# Altium footprint library Connector_FFC-FPC.PcbLib: 372 footprints (part 8 of 24)
Each footprint in its own frame and in the unit in brackets; x right, y up, seen from the top. Pads: shape width x height; smd on the part's side, far side on the other; paste and mask are expansions set on the pad; w line width, h text height; cw(c..) or ccw(c..) is an arc to the next point about the centre after c.
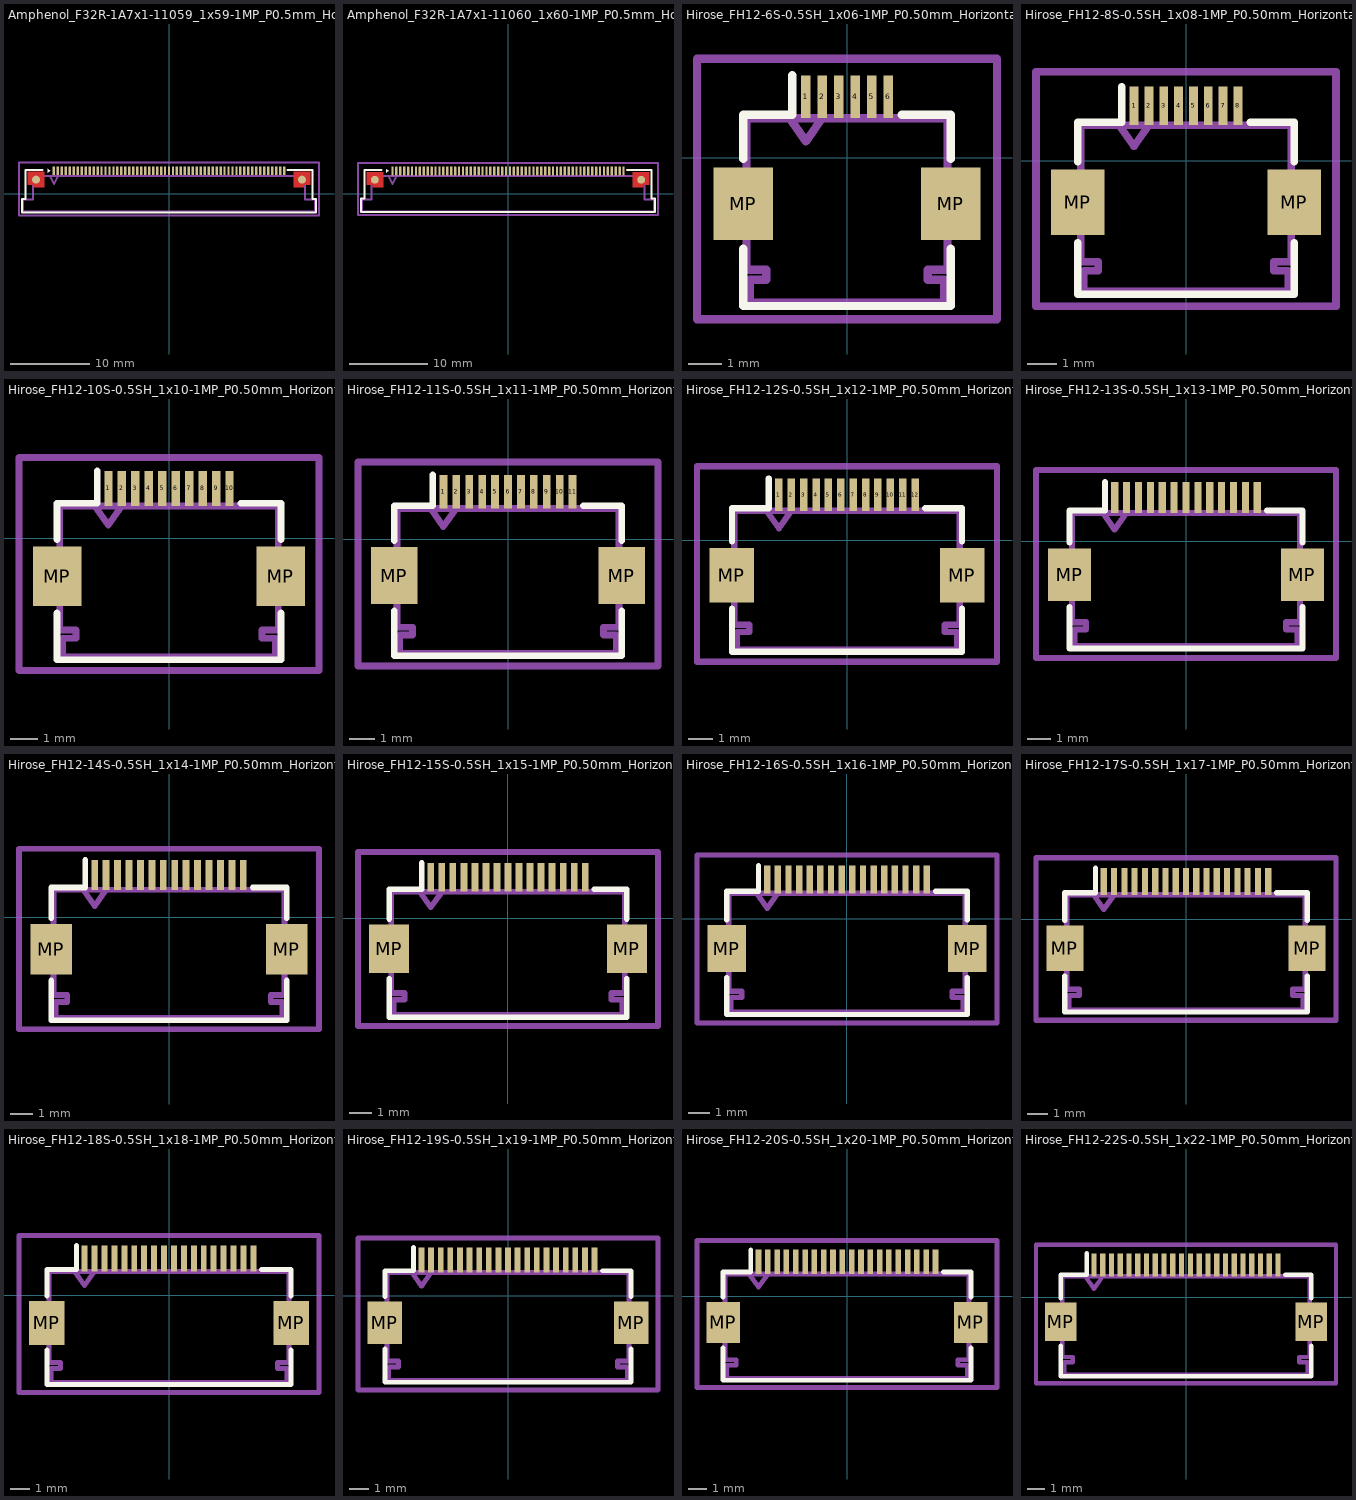
[diagram p7: the footprints below, top view; thin cyan lines are the x and y axes]

## Amphenol_F32R-1A7x1-11059_1x59-1MP_P0.5mm_Horizontal [mm]
pads (61):
  rrect25% 0.3x1.1 smd: 1(-14.5,2.9) 2(-14,2.9) 3(-13.5,2.9) 4(-13,2.9) 5(-12.5,2.9) 6(-12,2.9) 7(-11.5,2.9) 8(-11,2.9) 9(-10.5,2.9) 10(-10,2.9) 11(-9.5,2.9) 12(-9,2.9) 13(-8.5,2.9) 14(-8,2.9) 15(-7.5,2.9) 16(-7,2.9) 17(-6.5,2.9) 18(-6,2.9) 19(-5.5,2.9) 20(-5,2.9) 21(-4.5,2.9) 22(-4,2.9) 23(-3.5,2.9) 24(-3,2.9) 25(-2.5,2.9) 26(-2,2.9) 27(-1.5,2.9) 28(-1,2.9) 29(-0.5,2.9) 30(0,2.9) 31(0.5,2.9) 32(1,2.9) 33(1.5,2.9) 34(2,2.9) 35(2.5,2.9) 36(3,2.9) 37(3.5,2.9) 38(4,2.9) 39(4.5,2.9) 40(5,2.9) 41(5.5,2.9) 42(6,2.9) 43(6.5,2.9) 44(7,2.9) 45(7.5,2.9) 46(8,2.9) 47(8.5,2.9) 48(9,2.9) 49(9.5,2.9) 50(10,2.9) 51(10.5,2.9) 52(11,2.9) 53(11.5,2.9) 54(12,2.9) 55(12.5,2.9) 56(13,2.9) 57(13.5,2.9) 58(14,2.9) 59(14.5,2.9)
  round 1 smd: MP(-16.75,1.775) MP(16.75,1.775)
F.Cu:
  region: 17.8,1.15 17,1.15 17,0.8 15.7,0.8 15.7,2.75 17.8,2.75
  region: -15.7,0.8 -17,0.8 -17,1.15 -17.8,1.15 -17.8,2.75 -15.7,2.75
F.SilkS:
  region: -14.97,2.9 -15.3,2.66 -15.3,3.14
  lines w0.254: -15.91,3.01 -18.06,3.01 -18.06,-0.64 -18.51,-0.64 -18.51,-2.36 18.51,-2.36 18.51,-0.64 18.06,-0.64 18.06,3.01 14.91,3.01
F.Paste:
  region: 17.8,1.15 17,1.15 17,0.8 15.7,0.8 15.7,2.75 17.8,2.75
  region: -15.7,0.8 -17,0.8 -17,1.15 -17.8,1.15 -17.8,2.75 -15.7,2.75
F.Mask:
  region: 17.8,1.15 17,1.15 17,0.8 15.7,0.8 15.7,2.75 17.8,2.75
  region: -15.7,0.8 -17,0.8 -17,1.15 -17.8,1.15 -17.8,2.75 -15.7,2.75
Top Assembly:
  lines w0.254: -15,2.25 -14.5,1.25 -14,2.25 ; -18.4,-2.25 18.4,-2.25 18.4,-0.75 17.15,-0.75 17.15,2.25 -17.15,2.25 -17.15,-0.75 -18.4,-0.75 -18.4,-2.25
  text "'.Designator'" at -4.047,-0.84 h1
Top Courtyard:
  lines w0.254: -18.9,-2.75 18.9,-2.75 18.9,3.95 -18.9,3.95 -18.9,-2.75
Top Designator:
  text ".Designator" at -7.618,0.092 h1.52

## Amphenol_F32R-1A7x1-11060_1x60-1MP_P0.5mm_Horizontal [mm]
pads (62):
  rrect25% 0.3x1.1 smd: 1(-14.75,2.9) 2(-14.25,2.9) 3(-13.75,2.9) 4(-13.25,2.9) 5(-12.75,2.9) 6(-12.25,2.9) 7(-11.75,2.9) 8(-11.25,2.9) 9(-10.75,2.9) 10(-10.25,2.9) 11(-9.75,2.9) 12(-9.25,2.9) 13(-8.75,2.9) 14(-8.25,2.9) 15(-7.75,2.9) 16(-7.25,2.9) 17(-6.75,2.9) 18(-6.25,2.9) 19(-5.75,2.9) 20(-5.25,2.9) 21(-4.75,2.9) 22(-4.25,2.9) 23(-3.75,2.9) 24(-3.25,2.9) 25(-2.75,2.9) 26(-2.25,2.9) 27(-1.75,2.9) 28(-1.25,2.9) 29(-0.75,2.9) 30(-0.25,2.9) 31(0.25,2.9) 32(0.75,2.9) 33(1.25,2.9) 34(1.75,2.9) 35(2.25,2.9) 36(2.75,2.9) 37(3.25,2.9) 38(3.75,2.9) 39(4.25,2.9) 40(4.75,2.9) 41(5.25,2.9) 42(5.75,2.9) 43(6.25,2.9) 44(6.75,2.9) 45(7.25,2.9) 46(7.75,2.9) 47(8.25,2.9) 48(8.75,2.9) 49(9.25,2.9) 50(9.75,2.9) 51(10.25,2.9) 52(10.75,2.9) 53(11.25,2.9) 54(11.75,2.9) 55(12.25,2.9) 56(12.75,2.9) 57(13.25,2.9) 58(13.75,2.9) 59(14.25,2.9) 60(14.75,2.9)
  round 1 smd: MP(-17,1.775) MP(17,1.775)
F.Cu:
  region: 18.05,1.15 17.25,1.15 17.25,0.8 15.95,0.8 15.95,2.75 18.05,2.75
  region: -15.95,0.8 -17.25,0.8 -17.25,1.15 -18.05,1.15 -18.05,2.75 -15.95,2.75
F.SilkS:
  region: -15.22,2.9 -15.55,2.66 -15.55,3.14
  lines w0.254: -16.16,3.01 -18.31,3.01 -18.31,-0.64 -18.76,-0.64 -18.76,-2.36 18.76,-2.36 18.76,-0.64 18.31,-0.64 18.31,3.01 15.16,3.01
F.Paste:
  region: 18.05,1.15 17.25,1.15 17.25,0.8 15.95,0.8 15.95,2.75 18.05,2.75
  region: -15.95,0.8 -17.25,0.8 -17.25,1.15 -18.05,1.15 -18.05,2.75 -15.95,2.75
F.Mask:
  region: 18.05,1.15 17.25,1.15 17.25,0.8 15.95,0.8 15.95,2.75 18.05,2.75
  region: -15.95,0.8 -17.25,0.8 -17.25,1.15 -18.05,1.15 -18.05,2.75 -15.95,2.75
Top Assembly:
  lines w0.254: -15.25,2.25 -14.75,1.25 -14.25,2.25 ; -18.65,-2.25 18.65,-2.25 18.65,-0.75 17.4,-0.75 17.4,2.25 -17.4,2.25 -17.4,-0.75 -18.65,-0.75 -18.65,-2.25
  text "'.Designator'" at -4.047,-0.84 h1
Top Courtyard:
  lines w0.254: -19.15,-2.75 19.15,-2.75 19.15,3.95 -19.15,3.95 -19.15,-2.75
Top Designator:
  text ".Designator" at -7.618,0.092 h1.52

## Hirose_FH12-6S-0.5SH_1x06-1MP_P0.50mm_Horizontal [mm]
pads (8):
  rect 0.3x1.3 smd: 1(-1.25,1.85) 2(-0.75,1.85) 3(-0.25,1.85) 4(0.25,1.85) 5(0.75,1.85) 6(1.25,1.85)
  rect 1.8x2.2 smd: MP(-3.15,-1.4) MP(3.15,-1.4)
F.SilkS:
  lines w0.254: -3.15,-2.76 -3.15,-4.5 3.15,-4.5 3.15,-2.76 ; -3.15,-0.04 -3.15,1.3 -1.66,1.3 -1.66,2.5 ; 1.66,1.3 3.15,1.3 3.15,-0.04
Top Assembly:
  lines w0.254: -1.75,1.2 -1.25,0.493 -0.75,1.2 ; -3.05,-3.4 -2.45,-3.4 -2.45,-3.7 -2.95,-3.7 -2.95,-4.4 0,-4.4 2.95,-4.4 2.95,-3.7 2.45,-3.7 2.45,-3.4 3.05,-3.4 3.05,1.2 0,1.2 -3.05,1.2 -3.05,-3.4
  text "'.Designator'" at -4.047,-4.54 h1
Top Courtyard:
  lines w0.254: -4.55,-4.9 4.55,-4.9 4.55,3 -4.55,3 -4.55,-4.9
Top Designator:
  text ".Designator" at -7.618,-1.458 h1.52

## Hirose_FH12-8S-0.5SH_1x08-1MP_P0.50mm_Horizontal [mm]
pads (10):
  rect 0.3x1.3 smd: 1(-1.75,1.85) 2(-1.25,1.85) 3(-0.75,1.85) 4(-0.25,1.85) 5(0.25,1.85) 6(0.75,1.85) 7(1.25,1.85) 8(1.75,1.85)
  rect 1.8x2.2 smd: MP(-3.65,-1.4) MP(3.65,-1.4)
F.SilkS:
  lines w0.254: -3.65,-2.76 -3.65,-4.5 3.65,-4.5 3.65,-2.76 ; -3.65,-0.04 -3.65,1.3 -2.16,1.3 -2.16,2.5 ; 2.16,1.3 3.65,1.3 3.65,-0.04
Top Assembly:
  lines w0.254: -2.25,1.2 -1.75,0.493 -1.25,1.2 ; -3.55,-3.4 -2.95,-3.4 -2.95,-3.7 -3.45,-3.7 -3.45,-4.4 0,-4.4 3.45,-4.4 3.45,-3.7 2.95,-3.7 2.95,-3.4 3.55,-3.4 3.55,1.2 0,1.2 -3.55,1.2 -3.55,-3.4
  text "'.Designator'" at -4.047,-4.54 h1
Top Courtyard:
  lines w0.254: -5.05,-4.9 5.05,-4.9 5.05,3 -5.05,3 -5.05,-4.9
Top Designator:
  text ".Designator" at -7.618,-1.458 h1.52

## Hirose_FH12-10S-0.5SH_1x10-1MP_P0.50mm_Horizontal [mm]
pads (12):
  rect 0.3x1.3 smd: 1(-2.25,1.85) 2(-1.75,1.85) 3(-1.25,1.85) 4(-0.75,1.85) 5(-0.25,1.85) 6(0.25,1.85) 7(0.75,1.85) 8(1.25,1.85) 9(1.75,1.85) 10(2.25,1.85)
  rect 1.8x2.2 smd: MP(-4.15,-1.4) MP(4.15,-1.4)
F.SilkS:
  lines w0.254: -4.15,-2.76 -4.15,-4.5 4.15,-4.5 4.15,-2.76 ; -4.15,-0.04 -4.15,1.3 -2.66,1.3 -2.66,2.5 ; 2.66,1.3 4.15,1.3 4.15,-0.04
Top Assembly:
  lines w0.254: -2.75,1.2 -2.25,0.493 -1.75,1.2 ; -4.05,-3.4 -3.45,-3.4 -3.45,-3.7 -3.95,-3.7 -3.95,-4.4 0,-4.4 3.95,-4.4 3.95,-3.7 3.45,-3.7 3.45,-3.4 4.05,-3.4 4.05,1.2 0,1.2 -4.05,1.2 -4.05,-3.4
  text "'.Designator'" at -4.047,-4.54 h1
Top Courtyard:
  lines w0.254: -5.56,-4.9 5.56,-4.9 5.56,3 -5.56,3 -5.56,-4.9
Top Designator:
  text ".Designator" at -7.618,-1.458 h1.52

## Hirose_FH12-11S-0.5SH_1x11-1MP_P0.50mm_Horizontal [mm]
pads (13):
  rect 0.3x1.3 smd: 1(-2.5,1.85) 2(-2,1.85) 3(-1.5,1.85) 4(-1,1.85) 5(-0.5,1.85) 6(0,1.85) 7(0.5,1.85) 8(1,1.85) 9(1.5,1.85) 10(2,1.85) 11(2.5,1.85)
  rect 1.8x2.2 smd: MP(-4.4,-1.4) MP(4.4,-1.4)
F.SilkS:
  lines w0.254: -4.4,-2.76 -4.4,-4.5 4.4,-4.5 4.4,-2.76 ; -4.4,-0.04 -4.4,1.3 -2.91,1.3 -2.91,2.5 ; 2.91,1.3 4.4,1.3 4.4,-0.04
Top Assembly:
  lines w0.254: -3,1.2 -2.5,0.493 -2,1.2 ; -4.3,-3.4 -3.7,-3.4 -3.7,-3.7 -4.2,-3.7 -4.2,-4.4 0,-4.4 4.2,-4.4 4.2,-3.7 3.7,-3.7 3.7,-3.4 4.3,-3.4 4.3,1.2 0,1.2 -4.3,1.2 -4.3,-3.4
  text "'.Designator'" at -4.047,-4.54 h1
Top Courtyard:
  lines w0.254: -5.81,-4.9 5.81,-4.9 5.81,3 -5.81,3 -5.81,-4.9
Top Designator:
  text ".Designator" at -7.618,-1.458 h1.52

## Hirose_FH12-12S-0.5SH_1x12-1MP_P0.50mm_Horizontal [mm]
pads (14):
  rect 0.3x1.3 smd: 1(-2.75,1.85) 2(-2.25,1.85) 3(-1.75,1.85) 4(-1.25,1.85) 5(-0.75,1.85) 6(-0.25,1.85) 7(0.25,1.85) 8(0.75,1.85) 9(1.25,1.85) 10(1.75,1.85) 11(2.25,1.85) 12(2.75,1.85)
  rect 1.8x2.2 smd: MP(-4.65,-1.4) MP(4.65,-1.4)
F.SilkS:
  lines w0.254: -4.65,-2.76 -4.65,-4.5 4.65,-4.5 4.65,-2.76 ; -4.65,-0.04 -4.65,1.3 -3.16,1.3 -3.16,2.5 ; 3.16,1.3 4.65,1.3 4.65,-0.04
Top Assembly:
  lines w0.254: -3.25,1.2 -2.75,0.493 -2.25,1.2 ; -4.55,-3.4 -3.95,-3.4 -3.95,-3.7 -4.45,-3.7 -4.45,-4.4 0,-4.4 4.45,-4.4 4.45,-3.7 3.95,-3.7 3.95,-3.4 4.55,-3.4 4.55,1.2 0,1.2 -4.55,1.2 -4.55,-3.4
  text "'.Designator'" at -4.047,-4.54 h1
Top Courtyard:
  lines w0.254: -6.06,-4.9 6.06,-4.9 6.06,3 -6.06,3 -6.06,-4.9
Top Designator:
  text ".Designator" at -7.618,-1.458 h1.52

## Hirose_FH12-13S-0.5SH_1x13-1MP_P0.50mm_Horizontal [mm]
pads (15):
  rect 0.3x1.3 smd: 1(-3,1.85) 2(-2.5,1.85) 3(-2,1.85) 4(-1.5,1.85) 5(-1,1.85) 6(-0.5,1.85) 7(0,1.85) 8(0.5,1.85) 9(1,1.85) 10(1.5,1.85) 11(2,1.85) 12(2.5,1.85) 13(3,1.85)
  rect 1.8x2.2 smd: MP(-4.9,-1.4) MP(4.9,-1.4)
F.SilkS:
  lines w0.254: -4.9,-2.76 -4.9,-4.5 4.9,-4.5 4.9,-2.76 ; -4.9,-0.04 -4.9,1.3 -3.41,1.3 -3.41,2.5 ; 3.41,1.3 4.9,1.3 4.9,-0.04
Top Assembly:
  lines w0.254: -3.5,1.2 -3,0.493 -2.5,1.2 ; -4.8,-3.4 -4.2,-3.4 -4.2,-3.7 -4.7,-3.7 -4.7,-4.4 0,-4.4 4.7,-4.4 4.7,-3.7 4.2,-3.7 4.2,-3.4 4.8,-3.4 4.8,1.2 0,1.2 -4.8,1.2 -4.8,-3.4
  text "'.Designator'" at -4.047,-4.54 h1
Top Courtyard:
  lines w0.254: -6.31,-4.9 6.31,-4.9 6.31,3 -6.31,3 -6.31,-4.9
Top Designator:
  text ".Designator" at -7.618,-1.458 h1.52

## Hirose_FH12-14S-0.5SH_1x14-1MP_P0.50mm_Horizontal [mm]
pads (16):
  rect 0.3x1.3 smd: 1(-3.25,1.85) 2(-2.75,1.85) 3(-2.25,1.85) 4(-1.75,1.85) 5(-1.25,1.85) 6(-0.75,1.85) 7(-0.25,1.85) 8(0.25,1.85) 9(0.75,1.85) 10(1.25,1.85) 11(1.75,1.85) 12(2.25,1.85) 13(2.75,1.85) 14(3.25,1.85)
  rect 1.8x2.2 smd: MP(-5.15,-1.4) MP(5.15,-1.4)
F.SilkS:
  lines w0.254: -5.15,-2.76 -5.15,-4.5 5.15,-4.5 5.15,-2.76 ; -5.15,-0.04 -5.15,1.3 -3.66,1.3 -3.66,2.5 ; 3.66,1.3 5.15,1.3 5.15,-0.04
Top Assembly:
  lines w0.254: -3.75,1.2 -3.25,0.493 -2.75,1.2 ; -5.05,-3.4 -4.45,-3.4 -4.45,-3.7 -4.95,-3.7 -4.95,-4.4 0,-4.4 4.95,-4.4 4.95,-3.7 4.45,-3.7 4.45,-3.4 5.05,-3.4 5.05,1.2 0,1.2 -5.05,1.2 -5.05,-3.4
  text "'.Designator'" at -4.047,-4.54 h1
Top Courtyard:
  lines w0.254: -6.56,-4.9 6.56,-4.9 6.56,3 -6.56,3 -6.56,-4.9
Top Designator:
  text ".Designator" at -7.618,-1.458 h1.52

## Hirose_FH12-15S-0.5SH_1x15-1MP_P0.50mm_Horizontal [mm]
pads (17):
  rect 0.3x1.3 smd: 1(-3.5,1.85) 2(-3,1.85) 3(-2.5,1.85) 4(-2,1.85) 5(-1.5,1.85) 6(-1,1.85) 7(-0.5,1.85) 8(0,1.85) 9(0.5,1.85) 10(1,1.85) 11(1.5,1.85) 12(2,1.85) 13(2.5,1.85) 14(3,1.85) 15(3.5,1.85)
  rect 1.8x2.2 smd: MP(-5.4,-1.4) MP(5.4,-1.4)
F.SilkS:
  lines w0.254: -5.4,-2.76 -5.4,-4.5 5.4,-4.5 5.4,-2.76 ; -5.4,-0.04 -5.4,1.3 -3.91,1.3 -3.91,2.5 ; 3.91,1.3 5.4,1.3 5.4,-0.04
Top Assembly:
  lines w0.254: -4,1.2 -3.5,0.493 -3,1.2 ; -5.3,-3.4 -4.7,-3.4 -4.7,-3.7 -5.2,-3.7 -5.2,-4.4 0,-4.4 5.2,-4.4 5.2,-3.7 4.7,-3.7 4.7,-3.4 5.3,-3.4 5.3,1.2 0,1.2 -5.3,1.2 -5.3,-3.4
  text "'.Designator'" at -4.047,-4.54 h1
Top Courtyard:
  lines w0.254: -6.81,-4.9 6.81,-4.9 6.81,3 -6.81,3 -6.81,-4.9
Top Designator:
  text ".Designator" at -7.618,-1.458 h1.52

## Hirose_FH12-16S-0.5SH_1x16-1MP_P0.50mm_Horizontal [mm]
pads (18):
  rect 0.3x1.3 smd: 1(-3.75,1.85) 2(-3.25,1.85) 3(-2.75,1.85) 4(-2.25,1.85) 5(-1.75,1.85) 6(-1.25,1.85) 7(-0.75,1.85) 8(-0.25,1.85) 9(0.25,1.85) 10(0.75,1.85) 11(1.25,1.85) 12(1.75,1.85) 13(2.25,1.85) 14(2.75,1.85) 15(3.25,1.85) 16(3.75,1.85)
  rect 1.8x2.2 smd: MP(-5.65,-1.4) MP(5.65,-1.4)
F.SilkS:
  lines w0.254: -5.65,-2.76 -5.65,-4.5 5.65,-4.5 5.65,-2.76 ; -5.65,-0.04 -5.65,1.3 -4.16,1.3 -4.16,2.5 ; 4.16,1.3 5.65,1.3 5.65,-0.04
Top Assembly:
  lines w0.254: -4.25,1.2 -3.75,0.493 -3.25,1.2 ; -5.55,-3.4 -4.95,-3.4 -4.95,-3.7 -5.45,-3.7 -5.45,-4.4 0,-4.4 5.45,-4.4 5.45,-3.7 4.95,-3.7 4.95,-3.4 5.55,-3.4 5.55,1.2 0,1.2 -5.55,1.2 -5.55,-3.4
  text "'.Designator'" at -4.047,-4.54 h1
Top Courtyard:
  lines w0.254: -7.05,-4.9 7.05,-4.9 7.05,3 -7.05,3 -7.05,-4.9
Top Designator:
  text ".Designator" at -7.618,-1.458 h1.52

## Hirose_FH12-17S-0.5SH_1x17-1MP_P0.50mm_Horizontal [mm]
pads (19):
  rect 0.3x1.3 smd: 1(-4,1.85) 2(-3.5,1.85) 3(-3,1.85) 4(-2.5,1.85) 5(-2,1.85) 6(-1.5,1.85) 7(-1,1.85) 8(-0.5,1.85) 9(0,1.85) 10(0.5,1.85) 11(1,1.85) 12(1.5,1.85) 13(2,1.85) 14(2.5,1.85) 15(3,1.85) 16(3.5,1.85) 17(4,1.85)
  rect 1.8x2.2 smd: MP(-5.9,-1.4) MP(5.9,-1.4)
F.SilkS:
  lines w0.254: -5.9,-2.76 -5.9,-4.5 5.9,-4.5 5.9,-2.76 ; -5.9,-0.04 -5.9,1.3 -4.41,1.3 -4.41,2.5 ; 4.41,1.3 5.9,1.3 5.9,-0.04
Top Assembly:
  lines w0.254: -4.5,1.2 -4,0.493 -3.5,1.2 ; -5.8,-3.4 -5.2,-3.4 -5.2,-3.7 -5.7,-3.7 -5.7,-4.4 0,-4.4 5.7,-4.4 5.7,-3.7 5.2,-3.7 5.2,-3.4 5.8,-3.4 5.8,1.2 0,1.2 -5.8,1.2 -5.8,-3.4
  text "'.Designator'" at -4.047,-4.54 h1
Top Courtyard:
  lines w0.254: -7.3,-4.9 7.3,-4.9 7.3,3 -7.3,3 -7.3,-4.9
Top Designator:
  text ".Designator" at -7.618,-1.458 h1.52

## Hirose_FH12-18S-0.5SH_1x18-1MP_P0.50mm_Horizontal [mm]
pads (20):
  rect 0.3x1.3 smd: 1(-4.25,1.85) 2(-3.75,1.85) 3(-3.25,1.85) 4(-2.75,1.85) 5(-2.25,1.85) 6(-1.75,1.85) 7(-1.25,1.85) 8(-0.75,1.85) 9(-0.25,1.85) 10(0.25,1.85) 11(0.75,1.85) 12(1.25,1.85) 13(1.75,1.85) 14(2.25,1.85) 15(2.75,1.85) 16(3.25,1.85) 17(3.75,1.85) 18(4.25,1.85)
  rect 1.8x2.2 smd: MP(-6.15,-1.4) MP(6.15,-1.4)
F.SilkS:
  lines w0.254: -6.15,-2.76 -6.15,-4.5 6.15,-4.5 6.15,-2.76 ; -6.15,-0.04 -6.15,1.3 -4.66,1.3 -4.66,2.5 ; 4.66,1.3 6.15,1.3 6.15,-0.04
Top Assembly:
  lines w0.254: -4.75,1.2 -4.25,0.493 -3.75,1.2 ; -6.05,-3.4 -5.45,-3.4 -5.45,-3.7 -5.95,-3.7 -5.95,-4.4 0,-4.4 5.95,-4.4 5.95,-3.7 5.45,-3.7 5.45,-3.4 6.05,-3.4 6.05,1.2 0,1.2 -6.05,1.2 -6.05,-3.4
  text "'.Designator'" at -4.047,-4.54 h1
Top Courtyard:
  lines w0.254: -7.55,-4.9 7.55,-4.9 7.55,3 -7.55,3 -7.55,-4.9
Top Designator:
  text ".Designator" at -7.618,-1.458 h1.52

## Hirose_FH12-19S-0.5SH_1x19-1MP_P0.50mm_Horizontal [mm]
pads (21):
  rect 0.3x1.3 smd: 1(-4.5,1.85) 2(-4,1.85) 3(-3.5,1.85) 4(-3,1.85) 5(-2.5,1.85) 6(-2,1.85) 7(-1.5,1.85) 8(-1,1.85) 9(-0.5,1.85) 10(0,1.85) 11(0.5,1.85) 12(1,1.85) 13(1.5,1.85) 14(2,1.85) 15(2.5,1.85) 16(3,1.85) 17(3.5,1.85) 18(4,1.85) 19(4.5,1.85)
  rect 1.8x2.2 smd: MP(-6.4,-1.4) MP(6.4,-1.4)
F.SilkS:
  lines w0.254: -6.4,-2.76 -6.4,-4.5 6.4,-4.5 6.4,-2.76 ; -6.4,-0.04 -6.4,1.3 -4.91,1.3 -4.91,2.5 ; 4.91,1.3 6.4,1.3 6.4,-0.04
Top Assembly:
  lines w0.254: -5,1.2 -4.5,0.493 -4,1.2 ; -6.3,-3.4 -5.7,-3.4 -5.7,-3.7 -6.2,-3.7 -6.2,-4.4 0,-4.4 6.2,-4.4 6.2,-3.7 5.7,-3.7 5.7,-3.4 6.3,-3.4 6.3,1.2 0,1.2 -6.3,1.2 -6.3,-3.4
  text "'.Designator'" at -4.047,-4.54 h1
Top Courtyard:
  lines w0.254: -7.8,-4.9 7.8,-4.9 7.8,3 -7.8,3 -7.8,-4.9
Top Designator:
  text ".Designator" at -7.618,-1.458 h1.52

## Hirose_FH12-20S-0.5SH_1x20-1MP_P0.50mm_Horizontal [mm]
pads (22):
  rect 0.3x1.3 smd: 1(-4.75,1.85) 2(-4.25,1.85) 3(-3.75,1.85) 4(-3.25,1.85) 5(-2.75,1.85) 6(-2.25,1.85) 7(-1.75,1.85) 8(-1.25,1.85) 9(-0.75,1.85) 10(-0.25,1.85) 11(0.25,1.85) 12(0.75,1.85) 13(1.25,1.85) 14(1.75,1.85) 15(2.25,1.85) 16(2.75,1.85) 17(3.25,1.85) 18(3.75,1.85) 19(4.25,1.85) 20(4.75,1.85)
  rect 1.8x2.2 smd: MP(-6.65,-1.4) MP(6.65,-1.4)
F.SilkS:
  lines w0.254: -6.65,-2.76 -6.65,-4.5 6.65,-4.5 6.65,-2.76 ; -6.65,-0.04 -6.65,1.3 -5.16,1.3 -5.16,2.5 ; 5.16,1.3 6.65,1.3 6.65,-0.04
Top Assembly:
  lines w0.254: -5.25,1.2 -4.75,0.493 -4.25,1.2 ; -6.55,-3.4 -5.95,-3.4 -5.95,-3.7 -6.45,-3.7 -6.45,-4.4 0,-4.4 6.45,-4.4 6.45,-3.7 5.95,-3.7 5.95,-3.4 6.55,-3.4 6.55,1.2 0,1.2 -6.55,1.2 -6.55,-3.4
  text "'.Designator'" at -4.047,-4.54 h1
Top Courtyard:
  lines w0.254: -8.05,-4.9 8.05,-4.9 8.05,3 -8.05,3 -8.05,-4.9
Top Designator:
  text ".Designator" at -7.618,-1.458 h1.52

## Hirose_FH12-22S-0.5SH_1x22-1MP_P0.50mm_Horizontal [mm]
pads (24):
  rect 0.3x1.3 smd: 1(-5.25,1.85) 2(-4.75,1.85) 3(-4.25,1.85) 4(-3.75,1.85) 5(-3.25,1.85) 6(-2.75,1.85) 7(-2.25,1.85) 8(-1.75,1.85) 9(-1.25,1.85) 10(-0.75,1.85) 11(-0.25,1.85) 12(0.25,1.85) 13(0.75,1.85) 14(1.25,1.85) 15(1.75,1.85) 16(2.25,1.85) 17(2.75,1.85) 18(3.25,1.85) 19(3.75,1.85) 20(4.25,1.85) 21(4.75,1.85) 22(5.25,1.85)
  rect 1.8x2.2 smd: MP(-7.15,-1.4) MP(7.15,-1.4)
F.SilkS:
  lines w0.254: -7.15,-2.76 -7.15,-4.5 7.15,-4.5 7.15,-2.76 ; -7.15,-0.04 -7.15,1.3 -5.66,1.3 -5.66,2.5 ; 5.66,1.3 7.15,1.3 7.15,-0.04
Top Assembly:
  lines w0.254: -5.75,1.2 -5.25,0.493 -4.75,1.2 ; -7.05,-3.4 -6.45,-3.4 -6.45,-3.7 -6.95,-3.7 -6.95,-4.4 0,-4.4 6.95,-4.4 6.95,-3.7 6.45,-3.7 6.45,-3.4 7.05,-3.4 7.05,1.2 0,1.2 -7.05,1.2 -7.05,-3.4
  text "'.Designator'" at -4.047,-4.54 h1
Top Courtyard:
  lines w0.254: -8.55,-4.9 8.55,-4.9 8.55,3 -8.55,3 -8.55,-4.9
Top Designator:
  text ".Designator" at -7.618,-1.458 h1.52